# Altium schematic symbol library TMR6-2410.SchLib: 2 symbols
Pins are listed as number, name and electrical type; pins without a type are passive.

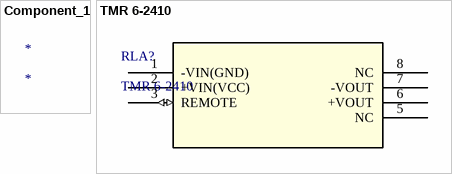
[diagram p0: symbols Component_1 to TMR 6-2410]

## Component_1
designator *

## TMR 6-2410
designator RLA?
No Description Available; Mfr_Name: Traco Power; Copyright: Copyright (C) 2021 Ultra Librarian. All rights reserved.; Manufacturer_Part_Number: TMR 6-2410; RefDes: RefDes; Type: DEV
footprint TMR6-SINGLE_TRP
pins: 1 -VIN(GND), 2 +VIN(VCC) (power), 3 REMOTE (io), 5 NC, 6 +VOUT (power), 7 -VOUT (power), 8 NC